# EAGLE library part XLR_5PIN (library PP_Connectors)
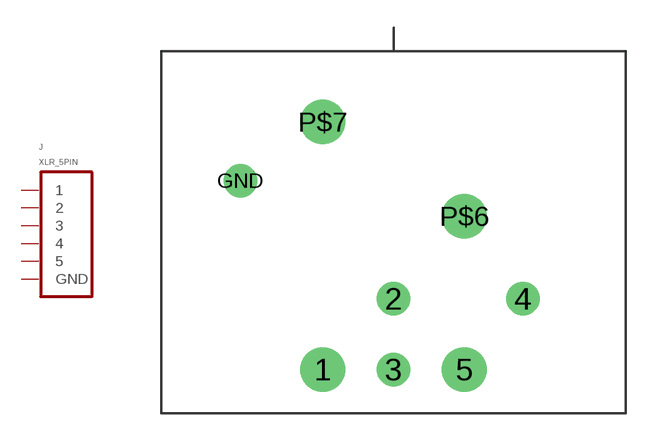
[diagram p12: symbol with the pads of NC5FBH; footprint NC5FBH]

Designator prefix J

## XLR_5PINNC5FBH  [NC5FBH]
1  1  pas
2  2  pas
3  3  pas
4  4  pas
5  5  pas
GND  GND  pas

## Footprint NC5FBH (pad centres in mm)
drill 1.6: 1 -3.81,-17.15; 5 3.81,-17.15; P$6 3.81,-8.89; P$7 -3.81,-3.81
drill 1.2: 2 0,-13.335; 3 0,-17.15; 4 6.98,-13.335; GND -8.25,-6.98